# Altium footprint library 模块库.PcbLib: 1 footprints
Each footprint in its own frame and in the unit in brackets; x right, y up, seen from the top. Pads: shape width x height; smd on the part's side, far side on the other; paste and mask are expansions set on the pad; w line width, h text height; cw(c..) or ccw(c..) is an arc to the next point about the centre after c.
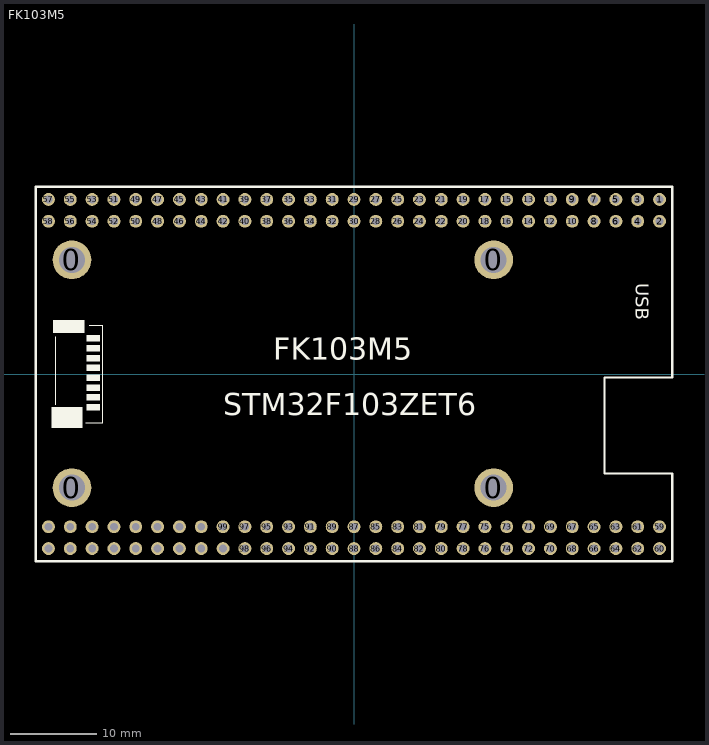
[diagram p0: the footprint, top view; thin cyan lines are the x and y axes]

## FK103M5 [mm]
pads (120):
  round 4.5 hole 3: 0(-32.827,13.28) 0(-32.826,-13.224) 0(16.251,-13.224) 0(16.251,13.28)
  round 1.5 hole 0.9: 1(35.56,20.32) 2(35.56,17.78) 3(33.02,20.32) 4(33.02,17.78) 5(30.48,20.32) 6(30.48,17.78) 7(27.94,20.32) 8(27.94,17.78) 9(25.4,20.32) 10(25.4,17.78) 11(22.86,20.32) 12(22.86,17.78) 13(20.32,20.32) 14(20.32,17.78) 15(17.78,20.32) 16(17.78,17.78) 17(15.24,20.32) 18(15.24,17.78) 19(12.7,20.32) 20(12.7,17.78) 21(10.16,20.32) 22(10.16,17.78) 23(7.62,20.32) 24(7.62,17.78) 25(5.08,20.32) 26(5.08,17.78) 27(2.54,20.32) 28(2.54,17.78) 29(0,20.32) 30(0,17.78) 31(-2.54,20.32) 32(-2.54,17.78) 33(-5.08,20.32) 34(-5.08,17.78) 35(-7.62,20.32) 36(-7.62,17.78) 37(-10.16,20.32) 38(-10.16,17.78) 39(-12.7,20.32) 40(-12.7,17.78) 41(-15.24,20.32) 42(-15.24,17.78) 43(-17.78,20.32) 44(-17.78,17.78) 45(-20.32,20.32) 46(-20.32,17.78) 47(-22.86,20.32) 48(-22.86,17.78) 49(-25.4,20.32) 50(-25.4,17.78) 51(-27.94,20.32) 52(-27.94,17.78) 53(-30.48,20.32) 54(-30.48,17.78) 55(-33.02,20.32) 56(-33.02,17.78) 57(-35.56,20.32) 58(-35.56,17.78) 59(35.56,-17.78) 60(35.56,-20.32) 61(33.02,-17.78) 62(33.02,-20.32) 63(30.48,-17.78) 64(30.48,-20.32) 65(27.94,-17.78) 66(27.94,-20.32) 67(25.4,-17.78) 68(25.4,-20.32) 69(22.86,-17.78) 70(22.86,-20.32) 71(20.32,-17.78) 72(20.32,-20.32) 73(17.78,-17.78) 74(17.78,-20.32) 75(15.24,-17.78) 76(15.24,-20.32) 77(12.7,-17.78) 78(12.7,-20.32) 79(10.16,-17.78) 80(10.16,-20.32) 81(7.62,-17.78) 82(7.62,-20.32) 83(5.08,-17.78) 84(5.08,-20.32) 85(2.54,-17.78) 86(2.54,-20.32) 87(0,-17.78) 88(0,-20.32) 89(-2.54,-17.78) 90(-2.54,-20.32) 91(-5.08,-17.78) 92(-5.08,-20.32) 93(-7.62,-17.78) 94(-7.62,-20.32) 95(-10.16,-17.78) 96(-10.16,-20.32) 97(-12.7,-17.78) 98(-12.7,-20.32) 99(-15.24,-17.78) 100(-15.24,-20.32) 101(-17.78,-17.78) 102(-17.78,-20.32) 103(-20.32,-17.78) 104(-20.32,-20.32) 105(-22.86,-17.78) 106(-22.86,-20.32) 107(-25.4,-17.78) 108(-25.4,-20.32) 109(-27.94,-17.78) 110(-27.94,-20.32) 111(-30.48,-17.78) 112(-30.48,-20.32) 113(-33.02,-17.78) 114(-33.02,-20.32) 115(-35.56,-17.78) 116(-35.56,-20.32)
Top Overlay:
  rectangle: -31.115,3.759 -29.591,4.521
  rectangle: -31.115,2.616 -29.591,3.378
  rectangle: -31.115,1.473 -29.591,2.235
  rectangle: -31.115,0.33 -29.591,1.092
  rectangle: -31.115,-0.813 -29.591,-0.051
  rectangle: -31.115,-1.956 -29.591,-1.194
  rectangle: -31.115,-3.099 -29.591,-2.337
  rectangle: -31.115,-4.242 -29.591,-3.48
  rectangle: -35.179,-6.274 -31.623,-3.861
  rectangle: -35.052,4.775 -31.369,6.299
  lines w0.1: -34.701,-3.574 -34.701,4.326 ; -31.228,-5.696 -29.223,-5.696 -29.223,5.698 -30.828,5.698
  lines w0.254: -37.033,-21.793 -37.033,21.793 37.033,21.793 37.033,-0.422 29.149,-0.422 29.149,-11.598 37.033,-11.598 37.033,-21.793 -37.033,-21.793
  text "FK103M5" at -9.398,1.651 h2.54
  text "USB" at 32.766,10.541 h1.52
  text "STM32F103ZET6" at -15.24,-4.826 h2.54